# Altium footprint library TO-252-2_L6.6-W6.1-P4.57-LS10.1-TL-CW.PcbLib: 1 footprints
Each footprint in its own frame and in the unit in brackets; x right, y up, seen from the top. Pads: shape width x height; smd on the part's side, far side on the other; paste and mask are expansions set on the pad; w line width, h text height; cw(c..) or ccw(c..) is an arc to the next point about the centre after c.
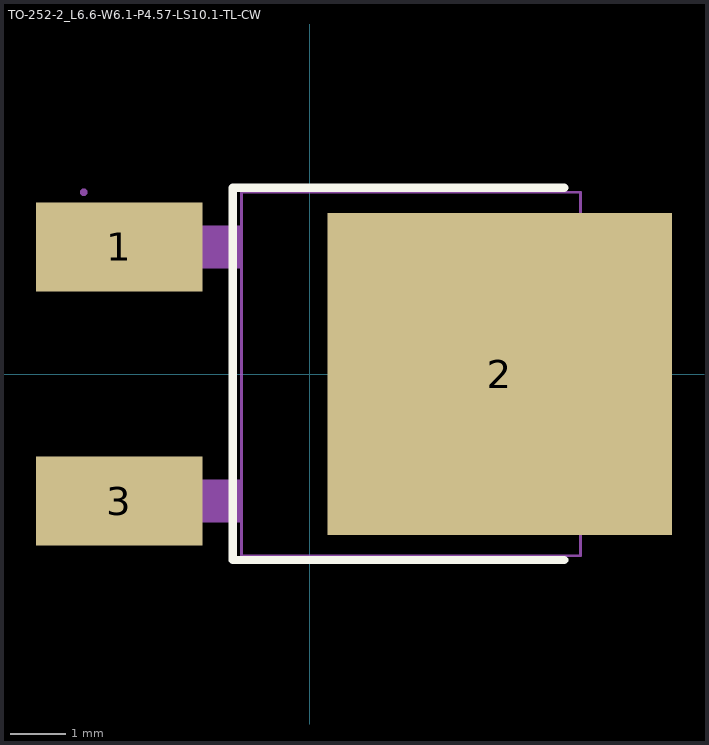
[diagram p0: the footprint, top view; thin cyan lines are the x and y axes]

## TO-252-2_L6.6-W6.1-P4.57-LS10.1-TL-CW [mm]
pads (3):
  rect 3x1.6 smd: 1(-3.424,2.285) 3(-3.424,-2.285)
  rect 6.2x5.8 smd: 2(3.424,0)
Top Overlay:
  lines w0.152: 4.585,-3.346 -1.383,-3.346 -1.383,3.346 4.585,3.346
Mechanical 6:
  circle w0.6: c-3.937,2.413 r0.3
Mechanical 15:
  region: -2.471,-1.905 -2.471,-2.665 -4.061,-2.665 -4.061,-1.905
  region: -1.211,-1.905 -1.211,-2.665 -2.481,-2.665 -2.481,-1.905
  region: -2.471,2.665 -2.471,1.905 -4.061,1.905 -4.061,2.665
  region: -1.21,2.665 -1.21,1.905 -2.48,1.905 -2.48,2.665
  region: 6.099,2.65 6.099,-2.65 0.749,-2.65 0.749,2.65
  region: -4.001,3.27 -4.001,3.295 -4.036,3.33 -4.086,3.33 -4.121,3.295 -4.121,3.27 -4.121,3.245 -4.086,3.21 -4.037,3.21 -4.001,3.245 -4.001,3.27
  lines w0.051: -1.221,-3.27 4.874,-3.27 4.874,3.27 -1.221,3.27 -1.221,-3.27